# EAGLE library part BMA280 (library neels)
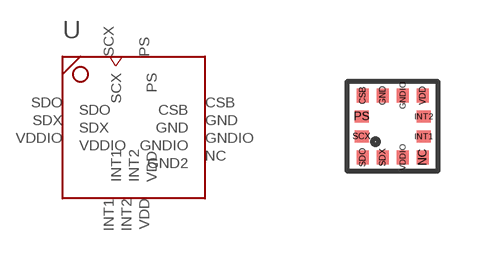
[diagram p0: symbol with the pads of LGA-12; footprint LGA-12]

Designator prefix -

## BMA280  [LGA-12]
CSB  CSB  in
GND  GND  pwr
GNDIO  GNDIO  pwr
INT1  INT1
INT2  INT2
NC  GND2
PS  PS  in
SCX  SCX  in
SDO  SDO  out
SDX  SDX
VDD  VDD  pwr
VDDIO  VDDIO  pwr

## Footprint LGA-12 (pad centres in mm)
smd 0.3 x 0.35: CSB -0.75,0.775; GND -0.25,0.775; GNDIO 0.25,0.775; NC 0.75,-0.775; SDO -0.75,-0.775; SDX -0.25,-0.775; VDD 0.75,0.775; VDDIO 0.25,-0.775
smd 0.35 x 0.3: INT1 0.775,-0.25; INT2 0.775,0.25; PS -0.775,0.25; SCX -0.775,-0.25